# EAGLE library part TLW-118-06-T-D (library SAMTEC-Txx_By_element14_Batch_1)
LOW PROFILE HEADER, DOUBLE ROW, 36 way
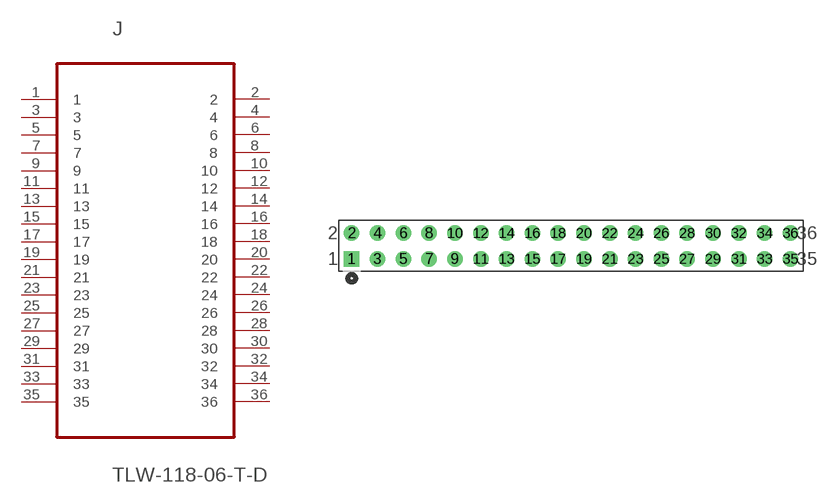
[diagram p242: symbol with the pads of SAMTEC_TLW-118-06-T-D; footprint SAMTEC_TLW-118-06-T-D]

Designator prefix J

## TLW-118-06-T-D (MPN: TLW-118-06-T-D; OC_FARNELL: -; OC_NEWARK: 12P0504; PACKAGE: LOW PROFILE HEADER; SUPPLIER: SAMTEC)  [SAMTEC_TLW-118-06-T-D]
1  1  pas
2  2  pas
3  3  pas
4  4  pas
5  5  pas
6  6  pas
7  7  pas
8  8  pas
9  9  pas
10  10  pas
11  11  pas
12  12  pas
13  13  pas
14  14  pas
15  15  pas
16  16  pas
17  17  pas
18  18  pas
19  19  pas
20  20  pas
21  21  pas
22  22  pas
23  23  pas
24  24  pas
25  25  pas
26  26  pas
27  27  pas
28  28  pas
29  29  pas
30  30  pas
31  31  pas
32  32  pas
33  33  pas
34  34  pas
35  35  pas
36  36  pas

## Footprint SAMTEC_TLW-118-06-T-D (pad centres in mm)
drill 1.016 square: 1 -43.18,-2.54
drill 1.016: 2 -43.18,0; 3 -40.64,-2.54; 4 -40.64,0; 5 -38.1,-2.54; 6 -38.1,0; 7 -35.56,-2.54; 8 -35.56,0; 9 -33.02,-2.54; 10 -33.02,0; 11 -30.48,-2.54; 12 -30.48,0; 13 -27.94,-2.54; 14 -27.94,0; 15 -25.4,-2.54; 16 -25.4,0; 17 -22.86,-2.54; 18 -22.86,0; 19 -20.32,-2.54; 20 -20.32,0; 21 -17.78,-2.54; 22 -17.78,0; 23 -15.24,-2.54; 24 -15.24,0; 25 -12.7,-2.54; 26 -12.7,0; 27 -10.16,-2.54; 28 -10.16,0; 29 -7.62,-2.54; 30 -7.62,0; 31 -5.08,-2.54; 32 -5.08,0; 33 -2.54,-2.54; 34 -2.54,0; 35 0,-2.54; 36 0,0